# Altium integrated library Linear Technology Power Management LDO Linear Regulators.IntLib: 2339 symbols (part 70 of 131)
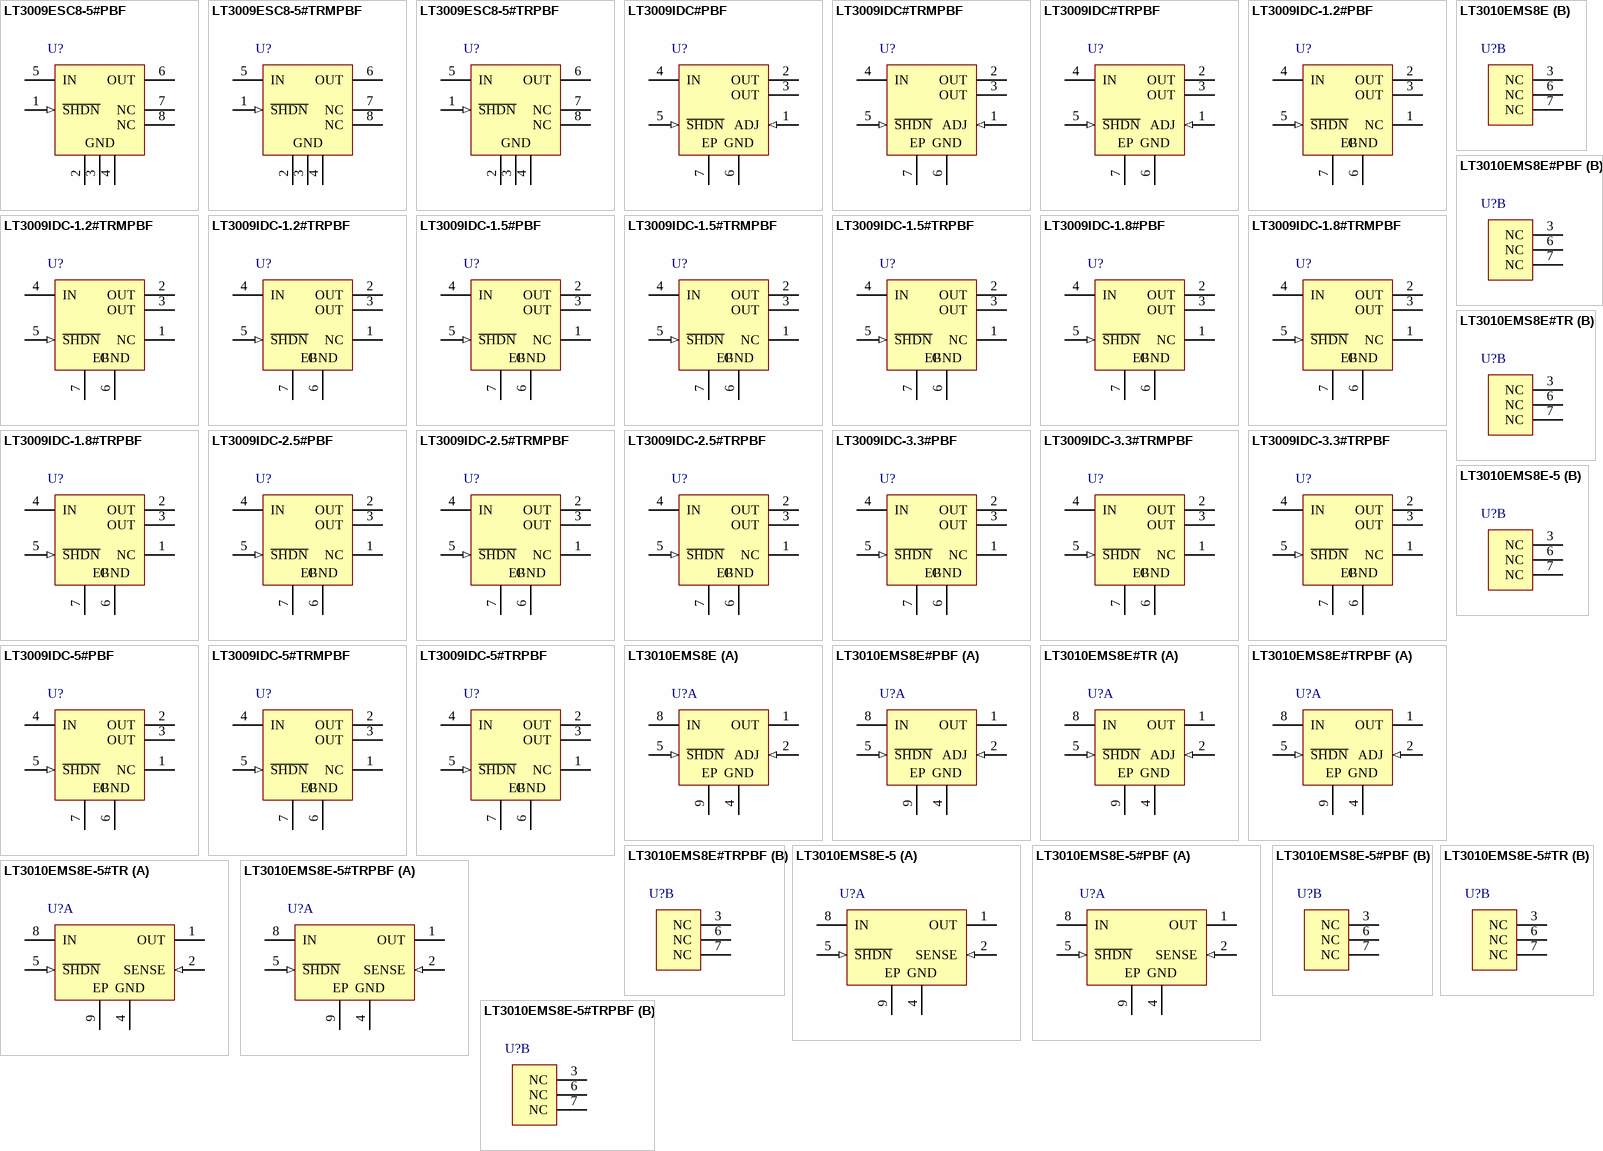
[diagram p138: symbols LT3009ESC8-5#PBF to LT3010EMS8E-5#TRPBF]

## LT3010EMS8E-5#TRPBF
designator U?
50 mA, Low Dropout Micropower Linear Regulator, 3 to 80 V Vin, 5 V Vout, 8-pin SOP (MS8E-8), -40 to 125 degC, Pb-Free, Tape and Reel; Manufacturer: Linear Technology; PartNumber: LT3010EMS8E-5#TRPBF; Discrete Pass Element: no; Dropout Voltage(V): 0.3; Iout(mA): 50; Isupply(mA): 0.03; Noise(uV): 100; Number of Outputs: 1; Output Voltage: 5; PSRR(dB): 68; Vin Max(V): 80; Vin Min(V): 3; DatasheetVersion: Rev. E; PackageVersion: Rev. F; PackageReference: MS8E-8; PackageDescription: 8-Pin Plastic MSOP, Exposed Die Pad, Body 3 x 3 mm, Pitch 0.65 mm; Supplier 1: Digi-Key; Supplier Part Number 1: LT3010EMS8E-5#TRPBFTR-ND; Supplier 2: Digi-Key; Supplier Part Number 2: LT3010EMS8E-5#TRPBFCT-ND; Supplier 3: Digi-Key; Supplier Part Number 3: LT3010EMS8E-5#TRPBFDKR-ND; Supplier 4: Newark; Supplier Part Number 4: 57M7842; Packing: Tape and Reel; RoHS: TRUE; Shutdown Current(uA): 1; Mounting Technology: Surface Mount; ComponentLink1Description: Manufacturer URL; ComponentLink1URL: http://www.linear.com/; ComponentLink2Description: Datasheet; ComponentLink2URL: http://cds.linear.com/docs/en/datasheet/30105fe.pdf; ComponentLink3Description: Package Specification; ComponentLink3URL: http://cds.linear.com/docs/en/datasheet/3080fc.pdf
footprint LT-MS8E-8-1880X1680TP_N (SOP, 8-Leads, Body 3x3mm, Pitch 0.65mm, Thermal Pad 1.88x1.68mm, IPC Medium Density)
footprint LT-MS8E-8-1880X1680TP_L (SOP, 8-Leads, Body 3x3mm, Pitch 0.65mm, Thermal Pad 1.88x1.68mm, IPC High Density)
footprint LT-MS8E-8-1880X1680TP_M (SOP, 8-Leads, Body 3x3mm, Pitch 0.65mm, Thermal Pad 1.88x1.68mm, IPC Low Density)
part A pins: 1 OUT (power) "Output. The output supplies power to the load. A minimum output capacitor of 1uF is required to prevent oscillations. Larger output capacitors will be required for applications with large transient loads to limit peak (See Datasheet)", 2 SENSE (in) "Sense. For the LT3010-5, the SENSE pin is the input to the error amplifier. Optimum regulation will be obtained at the point where the SENSE pin is connected to the OUT pin of the regulator. In critical applications, small (See Datasheet)", 4 GND (power) "Ground. The exposed backside (pin 9) of the package is an electrical connection for GND. As such, to ensure optimum device operation, pin 9 must be connected directly to pin 4 on the PC board.", 5 ~{SHDN} (in) "Shutdown. The S\H\D\N\ pin is used to put the LT3010 into a low power shutdown state. The output will be off when the S\H\D\N\ pin is pulled low. The S\H\D\N\ pin can be driven either by 5V logic or open-collector logic with (See Datasheet)", 8 IN (power) "Input. Power is supplied to the device through the IN pin. A bypass capacitor is required on this pin if the device is more than six inches away from the main input filter capacitor. In general, the output impedance of a (See Datasheet)", 9 EP (power) "Ground. The exposed backside (pin 9) of the package is an electrical connection for GND. As such, to ensure optimum device operation, pin 9 must be connected directly to pin 4 on the PC board."
part B pins: 3 NC "No Connection. May be floated, tied to IN or tied to GND.", 6 NC "No Connection. May be floated, tied to IN or tied to GND.", 7 NC "No Connection. May be floated, tied to IN or tied to GND."

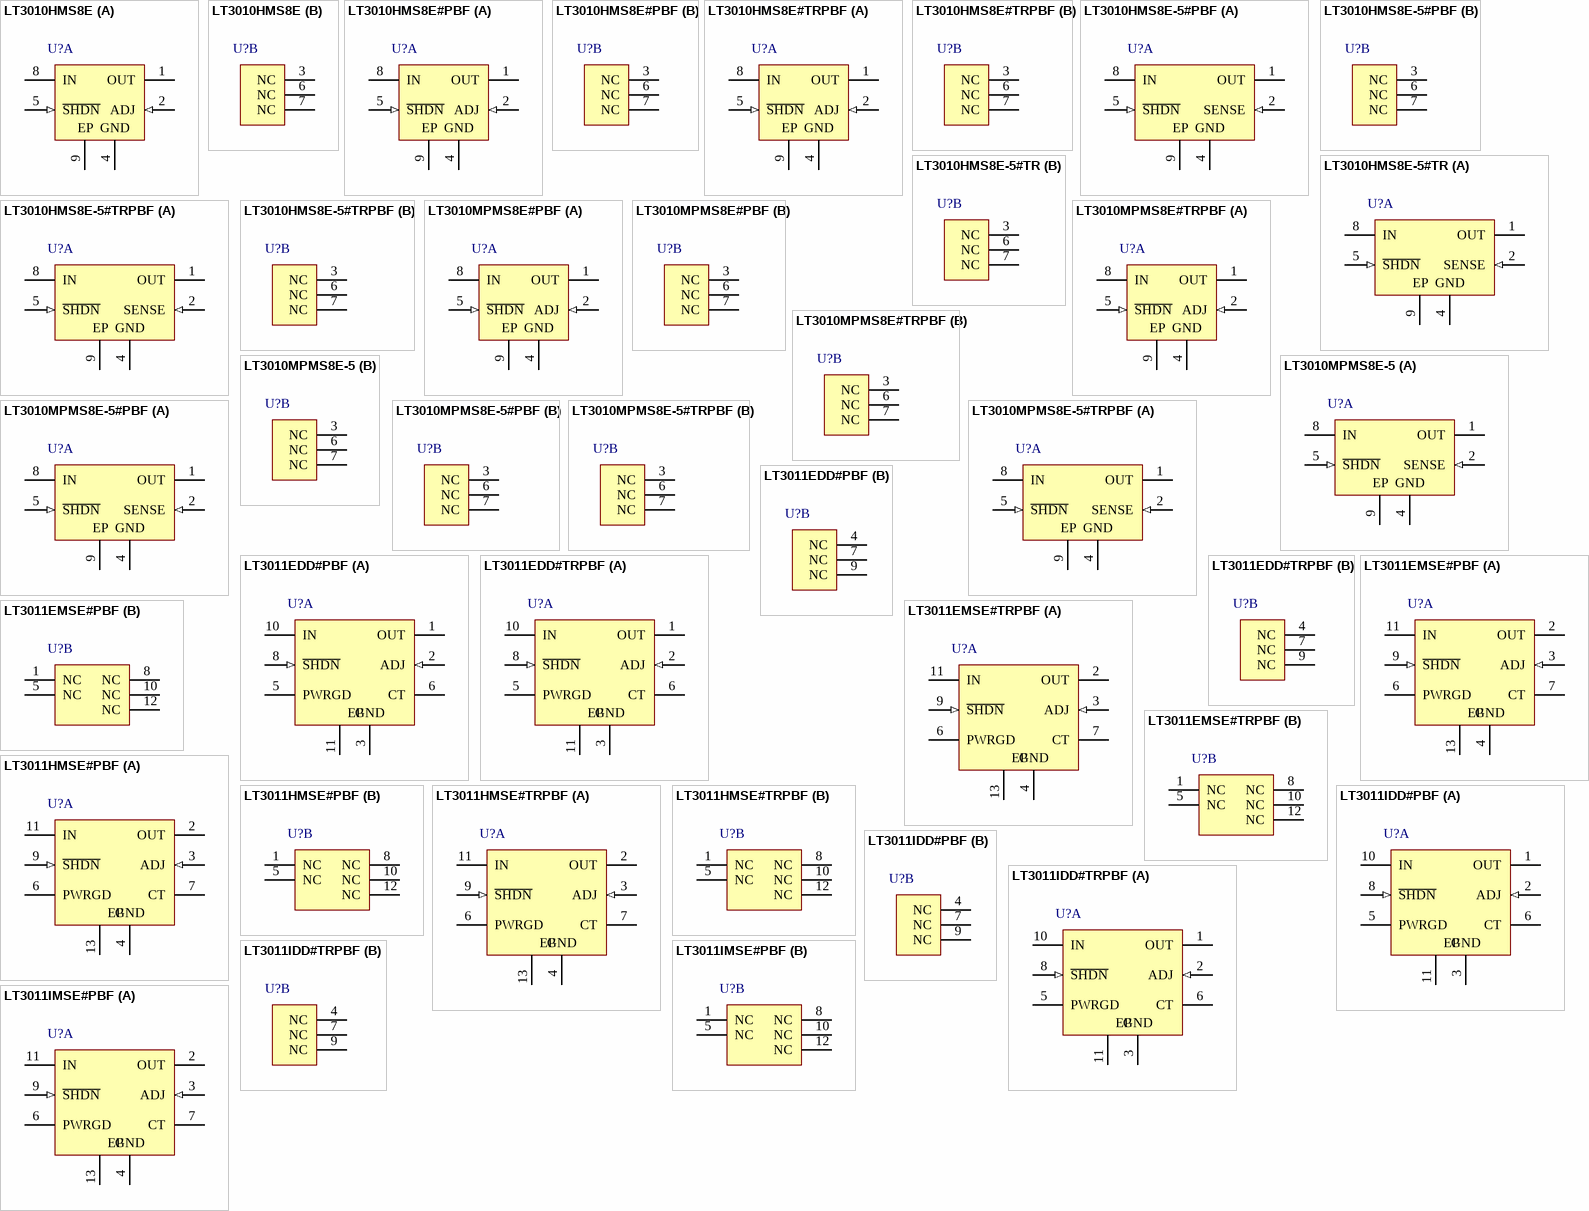
[diagram p43: symbols LT3010HMS8E to LT3011IMSE#PBF]

## LT3010HMS8E
designator U?
50 mA, Low Dropout Micropower Linear Regulator, 3 to 80 V Vin, Adjustable Vout, 8-pin SOP (MS8E-8), -40 to 140 degC; Manufacturer: Linear Technology; PartNumber: LT3010HMS8E; Discrete Pass Element: no; Dropout Voltage(V): 0.3; Iout(mA): 50; Isupply(mA): 0.03; Noise(uV): 100; Number of Outputs: 1; Output Voltage: Adj; PSRR(dB): 75; Vin Max(V): 80; Vin Min(V): 3; Vout Max(V): 60; Vout Min(V): 1.275; DatasheetVersion: Rev. E; PackageVersion: Rev. F; PackageReference: MS8E-8; PackageDescription: 8-Pin Plastic MSOP, Exposed Die Pad, Body 3 x 3 mm, Pitch 0.65 mm; RoHS: FALSE; Shutdown Current(uA): 1; Mounting Technology: Surface Mount; ComponentLink1Description: Manufacturer URL; ComponentLink1URL: http://www.linear.com/; ComponentLink2Description: Datasheet; ComponentLink2URL: http://cds.linear.com/docs/en/datasheet/30105fe.pdf; ComponentLink3Description: Package Specification; ComponentLink3URL: http://cds.linear.com/docs/en/datasheet/3080fc.pdf
footprint LT-MS8E-8-1880X1680TP_N (SOP, 8-Leads, Body 3x3mm, Pitch 0.65mm, Thermal Pad 1.88x1.68mm, IPC Medium Density)
footprint LT-MS8E-8-1880X1680TP_L (SOP, 8-Leads, Body 3x3mm, Pitch 0.65mm, Thermal Pad 1.88x1.68mm, IPC High Density)
footprint LT-MS8E-8-1880X1680TP_M (SOP, 8-Leads, Body 3x3mm, Pitch 0.65mm, Thermal Pad 1.88x1.68mm, IPC Low Density)
part A pins: 1 OUT (power) "Output. The output supplies power to the load.", 2 ADJ (in) "Adjust. This is the input to the error amplifier.", 4 GND (power) "Ground.", 5 ~{SHDN} (in) "Shutdown. The output will be off when the S\H\D\N\ pin is pulled low. The S\H\D\N\ pin can be driven either by 5V logic or open-collector logic with a pull-up resistor.", 8 IN (power) "Input. Power is supplied to the device through the IN pin. A bypass capacitor is required on this pin if the device is more than six inches away from the main input filter capacitor. In general, the output impedance of a (See Datasheet)", 9 EP (power) "Ground."
part B pins: 3 NC, 6 NC, 7 NC

## LT3010HMS8E#PBF
designator U?
50 mA, Low Dropout Micropower Linear Regulator, 3 to 80 V Vin, Adjustable Vout, 8-pin SOP (MS8E-8), -40 to 140 degC, Pb-Free; Manufacturer: Linear Technology; PartNumber: LT3010HMS8E#PBF; Discrete Pass Element: no; Dropout Voltage(V): 0.3; Iout(mA): 50; Isupply(mA): 0.03; Noise(uV): 100; Number of Outputs: 1; Output Voltage: Adj; PSRR(dB): 75; Vin Max(V): 80; Vin Min(V): 3; Vout Max(V): 60; Vout Min(V): 1.275; DatasheetVersion: Rev. E; PackageVersion: Rev. F; PackageReference: MS8E-8; PackageDescription: 8-Pin Plastic MSOP, Exposed Die Pad, Body 3 x 3 mm, Pitch 0.65 mm; Supplier 1: Digi-Key; Supplier Part Number 1: LT3010HMS8E#PBF-ND; Supplier 2: Farnell; Supplier Part Number 2: 2295239; Supplier 3: Newark; Supplier Part Number 3: 57M7848; RoHS: TRUE; Shutdown Current(uA): 1; Mounting Technology: Surface Mount; ComponentLink1Description: Manufacturer URL; ComponentLink1URL: http://www.linear.com/; ComponentLink2Description: Datasheet; ComponentLink2URL: http://cds.linear.com/docs/en/datasheet/30105fe.pdf; ComponentLink3Description: Package Specification; ComponentLink3URL: http://cds.linear.com/docs/en/datasheet/3080fc.pdf
footprint LT-MS8E-8-1880X1680TP_N (SOP, 8-Leads, Body 3x3mm, Pitch 0.65mm, Thermal Pad 1.88x1.68mm, IPC Medium Density)
footprint LT-MS8E-8-1880X1680TP_L (SOP, 8-Leads, Body 3x3mm, Pitch 0.65mm, Thermal Pad 1.88x1.68mm, IPC High Density)
footprint LT-MS8E-8-1880X1680TP_M (SOP, 8-Leads, Body 3x3mm, Pitch 0.65mm, Thermal Pad 1.88x1.68mm, IPC Low Density)
part A pins: 1 OUT (power) "Output. The output supplies power to the load.", 2 ADJ (in) "Adjust. This is the input to the error amplifier.", 4 GND (power) "Ground.", 5 ~{SHDN} (in) "Shutdown. The output will be off when the S\H\D\N\ pin is pulled low. The S\H\D\N\ pin can be driven either by 5V logic or open-collector logic with a pull-up resistor.", 8 IN (power) "Input. Power is supplied to the device through the IN pin. A bypass capacitor is required on this pin if the device is more than six inches away from the main input filter capacitor. In general, the output impedance of a (See Datasheet)", 9 EP (power) "Ground."
part B pins: 3 NC, 6 NC, 7 NC

## LT3010HMS8E#TRPBF
designator U?
50 mA, Low Dropout Micropower Linear Regulator, 3 to 80 V Vin, Adjustable Vout, 8-pin SOP (MS8E-8), -40 to 140 degC, Pb-Free, Tape and Reel; Manufacturer: Linear Technology; PartNumber: LT3010HMS8E#TRPBF; Discrete Pass Element: no; Dropout Voltage(V): 0.3; Iout(mA): 50; Isupply(mA): 0.03; Noise(uV): 100; Number of Outputs: 1; Output Voltage: Adj; PSRR(dB): 75; Vin Max(V): 80; Vin Min(V): 3; Vout Max(V): 60; Vout Min(V): 1.275; DatasheetVersion: Rev. E; PackageVersion: Rev. F; PackageReference: MS8E-8; PackageDescription: 8-Pin Plastic MSOP, Exposed Die Pad, Body 3 x 3 mm, Pitch 0.65 mm; Supplier 1: Digi-Key; Supplier Part Number 1: LT3010HMS8E#TRPBF-ND; Packing: Tape and Reel; RoHS: TRUE; Shutdown Current(uA): 1; Mounting Technology: Surface Mount; ComponentLink1Description: Manufacturer URL; ComponentLink1URL: http://www.linear.com/; ComponentLink2Description: Datasheet; ComponentLink2URL: http://cds.linear.com/docs/en/datasheet/30105fe.pdf; ComponentLink3Description: Package Specification; ComponentLink3URL: http://cds.linear.com/docs/en/datasheet/3080fc.pdf
footprint LT-MS8E-8-1880X1680TP_N (SOP, 8-Leads, Body 3x3mm, Pitch 0.65mm, Thermal Pad 1.88x1.68mm, IPC Medium Density)
footprint LT-MS8E-8-1880X1680TP_L (SOP, 8-Leads, Body 3x3mm, Pitch 0.65mm, Thermal Pad 1.88x1.68mm, IPC High Density)
footprint LT-MS8E-8-1880X1680TP_M (SOP, 8-Leads, Body 3x3mm, Pitch 0.65mm, Thermal Pad 1.88x1.68mm, IPC Low Density)
part A pins: 1 OUT (power) "Output. The output supplies power to the load.", 2 ADJ (in) "Adjust. This is the input to the error amplifier.", 4 GND (power) "Ground.", 5 ~{SHDN} (in) "Shutdown. The output will be off when the S\H\D\N\ pin is pulled low. The S\H\D\N\ pin can be driven either by 5V logic or open-collector logic with a pull-up resistor.", 8 IN (power) "Input. Power is supplied to the device through the IN pin. A bypass capacitor is required on this pin if the device is more than six inches away from the main input filter capacitor. In general, the output impedance of a (See Datasheet)", 9 EP (power) "Ground."
part B pins: 3 NC, 6 NC, 7 NC

## LT3010HMS8E-5#PBF
designator U?
50 mA, Low Dropout Micropower Linear Regulator, 3 to 80 V Vin, 5 V Vout, 8-pin SOP (MS8E-8), -40 to 140 degC, Pb-Free; Manufacturer: Linear Technology; PartNumber: LT3010HMS8E-5#PBF; Discrete Pass Element: no; Dropout Voltage(V): 0.3; Iout(mA): 50; Isupply(mA): 0.03; Noise(uV): 100; Number of Outputs: 1; Output Voltage: 5; PSRR(dB): 68; Vin Max(V): 80; Vin Min(V): 3; DatasheetVersion: Rev. E; PackageVersion: Rev. F; PackageReference: MS8E-8; PackageDescription: 8-Pin Plastic MSOP, Exposed Die Pad, Body 3 x 3 mm, Pitch 0.65 mm; Supplier 1: Digi-Key; Supplier Part Number 1: LT3010HMS8E-5#PBF-ND; Supplier 2: Farnell; Supplier Part Number 2: 2102635; Supplier 3: Farnell; Supplier Part Number 3: 1627592; Supplier 4: Newark; Supplier Part Number 4: 57M7846; RoHS: TRUE; Shutdown Current(uA): 1; Mounting Technology: Surface Mount; ComponentLink1Description: Manufacturer URL; ComponentLink1URL: http://www.linear.com/; ComponentLink2Description: Datasheet; ComponentLink2URL: http://cds.linear.com/docs/en/datasheet/30105fe.pdf; ComponentLink3Description: Package Specification; ComponentLink3URL: http://cds.linear.com/docs/en/datasheet/3080fc.pdf
footprint LT-MS8E-8-1880X1680TP_N (SOP, 8-Leads, Body 3x3mm, Pitch 0.65mm, Thermal Pad 1.88x1.68mm, IPC Medium Density)
footprint LT-MS8E-8-1880X1680TP_L (SOP, 8-Leads, Body 3x3mm, Pitch 0.65mm, Thermal Pad 1.88x1.68mm, IPC High Density)
footprint LT-MS8E-8-1880X1680TP_M (SOP, 8-Leads, Body 3x3mm, Pitch 0.65mm, Thermal Pad 1.88x1.68mm, IPC Low Density)
part A pins: 1 OUT (power) "Output. The output supplies power to the load. A minimum output capacitor of 1uF is required to prevent oscillations. Larger output capacitors will be required for applications with large transient loads to limit peak (See Datasheet)", 2 SENSE (in) "Sense. For the LT3010-5, the SENSE pin is the input to the error amplifier. Optimum regulation will be obtained at the point where the SENSE pin is connected to the OUT pin of the regulator. In critical applications, small (See Datasheet)", 4 GND (power) "Ground. The exposed backside (pin 9) of the package is an electrical connection for GND. As such, to ensure optimum device operation, pin 9 must be connected directly to pin 4 on the PC board.", 5 ~{SHDN} (in) "Shutdown. The S\H\D\N\ pin is used to put the LT3010 into a low power shutdown state. The output will be off when the S\H\D\N\ pin is pulled low. The S\H\D\N\ pin can be driven either by 5V logic or open-collector logic with (See Datasheet)", 8 IN (power) "Input. Power is supplied to the device through the IN pin. A bypass capacitor is required on this pin if the device is more than six inches away from the main input filter capacitor. In general, the output impedance of a (See Datasheet)", 9 EP (power) "Ground. The exposed backside (pin 9) of the package is an electrical connection for GND. As such, to ensure optimum device operation, pin 9 must be connected directly to pin 4 on the PC board."
part B pins: 3 NC "No Connection. May be floated, tied to IN or tied to GND.", 6 NC "No Connection. May be floated, tied to IN or tied to GND.", 7 NC "No Connection. May be floated, tied to IN or tied to GND."

## LT3010HMS8E-5#TR
designator U?
50 mA, Low Dropout Micropower Linear Regulator, 3 to 80 V Vin, 5 V Vout, 8-pin SOP (MS8E-8), -40 to 140 degC, Tape and Reel; Manufacturer: Linear Technology; PartNumber: LT3010HMS8E-5#TR; Discrete Pass Element: no; Dropout Voltage(V): 0.3; Iout(mA): 50; Isupply(mA): 0.03; Noise(uV): 100; Number of Outputs: 1; Output Voltage: 5; PSRR(dB): 68; Vin Max(V): 80; Vin Min(V): 3; DatasheetVersion: Rev. E; PackageVersion: Rev. F; PackageReference: MS8E-8; PackageDescription: 8-Pin Plastic MSOP, Exposed Die Pad, Body 3 x 3 mm, Pitch 0.65 mm; Packing: Tape and Reel; RoHS: FALSE; Shutdown Current(uA): 1; Mounting Technology: Surface Mount; ComponentLink1Description: Manufacturer URL; ComponentLink1URL: http://www.linear.com/; ComponentLink2Description: Datasheet; ComponentLink2URL: http://cds.linear.com/docs/en/datasheet/30105fe.pdf; ComponentLink3Description: Package Specification; ComponentLink3URL: http://cds.linear.com/docs/en/datasheet/3080fc.pdf
footprint LT-MS8E-8-1880X1680TP_N (SOP, 8-Leads, Body 3x3mm, Pitch 0.65mm, Thermal Pad 1.88x1.68mm, IPC Medium Density)
footprint LT-MS8E-8-1880X1680TP_L (SOP, 8-Leads, Body 3x3mm, Pitch 0.65mm, Thermal Pad 1.88x1.68mm, IPC High Density)
footprint LT-MS8E-8-1880X1680TP_M (SOP, 8-Leads, Body 3x3mm, Pitch 0.65mm, Thermal Pad 1.88x1.68mm, IPC Low Density)
part A pins: 1 OUT (power) "Output. The output supplies power to the load. A minimum output capacitor of 1uF is required to prevent oscillations. Larger output capacitors will be required for applications with large transient loads to limit peak (See Datasheet)", 2 SENSE (in) "Sense. For the LT3010-5, the SENSE pin is the input to the error amplifier. Optimum regulation will be obtained at the point where the SENSE pin is connected to the OUT pin of the regulator. In critical applications, small (See Datasheet)", 4 GND (power) "Ground. The exposed backside (pin 9) of the package is an electrical connection for GND. As such, to ensure optimum device operation, pin 9 must be connected directly to pin 4 on the PC board.", 5 ~{SHDN} (in) "Shutdown. The S\H\D\N\ pin is used to put the LT3010 into a low power shutdown state. The output will be off when the S\H\D\N\ pin is pulled low. The S\H\D\N\ pin can be driven either by 5V logic or open-collector logic with (See Datasheet)", 8 IN (power) "Input. Power is supplied to the device through the IN pin. A bypass capacitor is required on this pin if the device is more than six inches away from the main input filter capacitor. In general, the output impedance of a (See Datasheet)", 9 EP (power) "Ground. The exposed backside (pin 9) of the package is an electrical connection for GND. As such, to ensure optimum device operation, pin 9 must be connected directly to pin 4 on the PC board."
part B pins: 3 NC "No Connection. May be floated, tied to IN or tied to GND.", 6 NC "No Connection. May be floated, tied to IN or tied to GND.", 7 NC "No Connection. May be floated, tied to IN or tied to GND."

## LT3010HMS8E-5#TRPBF
designator U?
50 mA, Low Dropout Micropower Linear Regulator, 3 to 80 V Vin, 5 V Vout, 8-pin SOP (MS8E-8), -40 to 140 degC, Pb-Free, Tape and Reel; Manufacturer: Linear Technology; PartNumber: LT3010HMS8E-5#TRPBF; Discrete Pass Element: no; Dropout Voltage(V): 0.3; Iout(mA): 50; Isupply(mA): 0.03; Noise(uV): 100; Number of Outputs: 1; Output Voltage: 5; PSRR(dB): 68; Vin Max(V): 80; Vin Min(V): 3; DatasheetVersion: Rev. E; PackageVersion: Rev. F; PackageReference: MS8E-8; PackageDescription: 8-Pin Plastic MSOP, Exposed Die Pad, Body 3 x 3 mm, Pitch 0.65 mm; Supplier 1: Digi-Key; Supplier Part Number 1: LT3010HMS8E-5#TRPBF-ND; Supplier 2: Newark; Supplier Part Number 2: 57M7847; Packing: Tape and Reel; RoHS: TRUE; Shutdown Current(uA): 1; Mounting Technology: Surface Mount; ComponentLink1Description: Manufacturer URL; ComponentLink1URL: http://www.linear.com/; ComponentLink2Description: Datasheet; ComponentLink2URL: http://cds.linear.com/docs/en/datasheet/30105fe.pdf; ComponentLink3Description: Package Specification; ComponentLink3URL: http://cds.linear.com/docs/en/datasheet/3080fc.pdf
footprint LT-MS8E-8-1880X1680TP_N (SOP, 8-Leads, Body 3x3mm, Pitch 0.65mm, Thermal Pad 1.88x1.68mm, IPC Medium Density)
footprint LT-MS8E-8-1880X1680TP_L (SOP, 8-Leads, Body 3x3mm, Pitch 0.65mm, Thermal Pad 1.88x1.68mm, IPC High Density)
footprint LT-MS8E-8-1880X1680TP_M (SOP, 8-Leads, Body 3x3mm, Pitch 0.65mm, Thermal Pad 1.88x1.68mm, IPC Low Density)
part A pins: 1 OUT (power) "Output. The output supplies power to the load. A minimum output capacitor of 1uF is required to prevent oscillations. Larger output capacitors will be required for applications with large transient loads to limit peak (See Datasheet)", 2 SENSE (in) "Sense. For the LT3010-5, the SENSE pin is the input to the error amplifier. Optimum regulation will be obtained at the point where the SENSE pin is connected to the OUT pin of the regulator. In critical applications, small (See Datasheet)", 4 GND (power) "Ground. The exposed backside (pin 9) of the package is an electrical connection for GND. As such, to ensure optimum device operation, pin 9 must be connected directly to pin 4 on the PC board.", 5 ~{SHDN} (in) "Shutdown. The S\H\D\N\ pin is used to put the LT3010 into a low power shutdown state. The output will be off when the S\H\D\N\ pin is pulled low. The S\H\D\N\ pin can be driven either by 5V logic or open-collector logic with (See Datasheet)", 8 IN (power) "Input. Power is supplied to the device through the IN pin. A bypass capacitor is required on this pin if the device is more than six inches away from the main input filter capacitor. In general, the output impedance of a (See Datasheet)", 9 EP (power) "Ground. The exposed backside (pin 9) of the package is an electrical connection for GND. As such, to ensure optimum device operation, pin 9 must be connected directly to pin 4 on the PC board."
part B pins: 3 NC "No Connection. May be floated, tied to IN or tied to GND.", 6 NC "No Connection. May be floated, tied to IN or tied to GND.", 7 NC "No Connection. May be floated, tied to IN or tied to GND."

## LT3010MPMS8E#PBF
designator U?
50 mA, Low Dropout Micropower Linear Regulator, 3 to 80 V Vin, Adjustable Vout, 8-pin SOP (MS8E-8), -55 to 125 degC, Pb-Free; Manufacturer: Linear Technology; PartNumber: LT3010MPMS8E#PBF; Discrete Pass Element: no; Dropout Voltage(V): 0.3; Iout(mA): 50; Isupply(mA): 0.03; Noise(uV): 100; Number of Outputs: 1; Output Voltage: Adj; PSRR(dB): 75; Vin Max(V): 80; Vin Min(V): 3; Vout Max(V): 60; Vout Min(V): 1.275; DatasheetVersion: Rev. E; PackageVersion: Rev. F; PackageReference: MS8E-8; PackageDescription: 8-Pin Plastic MSOP, Exposed Die Pad, Body 3 x 3 mm, Pitch 0.65 mm; Supplier 1: Digi-Key; Supplier Part Number 1: LT3010MPMS8E#PBF-ND; Supplier 2: Farnell; Supplier Part Number 2: 2295240; Supplier 3: Newark; Supplier Part Number 3: 78R8427; RoHS: TRUE; Shutdown Current(uA): 1; Mounting Technology: Surface Mount; ComponentLink1Description: Manufacturer URL; ComponentLink1URL: http://www.linear.com/; ComponentLink2Description: Datasheet; ComponentLink2URL: http://cds.linear.com/docs/en/datasheet/30105fe.pdf; ComponentLink3Description: Package Specification; ComponentLink3URL: http://cds.linear.com/docs/en/datasheet/3080fc.pdf
footprint LT-MS8E-8-1880X1680TP_N (SOP, 8-Leads, Body 3x3mm, Pitch 0.65mm, Thermal Pad 1.88x1.68mm, IPC Medium Density)
footprint LT-MS8E-8-1880X1680TP_L (SOP, 8-Leads, Body 3x3mm, Pitch 0.65mm, Thermal Pad 1.88x1.68mm, IPC High Density)
footprint LT-MS8E-8-1880X1680TP_M (SOP, 8-Leads, Body 3x3mm, Pitch 0.65mm, Thermal Pad 1.88x1.68mm, IPC Low Density)
part A pins: 1 OUT (power) "Output. The output supplies power to the load.", 2 ADJ (in) "Adjust. This is the input to the error amplifier.", 4 GND (power) "Ground.", 5 ~{SHDN} (in) "Shutdown. The output will be off when the S\H\D\N\ pin is pulled low. The S\H\D\N\ pin can be driven either by 5V logic or open-collector logic with a pull-up resistor.", 8 IN (power) "Input. Power is supplied to the device through the IN pin. A bypass capacitor is required on this pin if the device is more than six inches away from the main input filter capacitor. In general, the output impedance of a (See Datasheet)", 9 EP (power) "Ground."
part B pins: 3 NC, 6 NC, 7 NC

## LT3010MPMS8E#TRPBF
designator U?
50 mA, Low Dropout Micropower Linear Regulator, 3 to 80 V Vin, Adjustable Vout, 8-pin SOP (MS8E-8), -55 to 125 degC, Pb-Free, Tape and Reel; Manufacturer: Linear Technology; PartNumber: LT3010MPMS8E#TRPBF; Discrete Pass Element: no; Dropout Voltage(V): 0.3; Iout(mA): 50; Isupply(mA): 0.03; Noise(uV): 100; Number of Outputs: 1; Output Voltage: Adj; PSRR(dB): 75; Vin Max(V): 80; Vin Min(V): 3; Vout Max(V): 60; Vout Min(V): 1.275; DatasheetVersion: Rev. E; PackageVersion: Rev. F; PackageReference: MS8E-8; PackageDescription: 8-Pin Plastic MSOP, Exposed Die Pad, Body 3 x 3 mm, Pitch 0.65 mm; Supplier 1: Digi-Key; Supplier Part Number 1: LT3010MPMS8E#TRPBF-ND; Supplier 2: Newark; Supplier Part Number 2: 78R8428; Packing: Tape and Reel; RoHS: TRUE; Shutdown Current(uA): 1; Mounting Technology: Surface Mount; ComponentLink1Description: Manufacturer URL; ComponentLink1URL: http://www.linear.com/; ComponentLink2Description: Datasheet; ComponentLink2URL: http://cds.linear.com/docs/en/datasheet/30105fe.pdf; ComponentLink3Description: Package Specification; ComponentLink3URL: http://cds.linear.com/docs/en/datasheet/3080fc.pdf
footprint LT-MS8E-8-1880X1680TP_N (SOP, 8-Leads, Body 3x3mm, Pitch 0.65mm, Thermal Pad 1.88x1.68mm, IPC Medium Density)
footprint LT-MS8E-8-1880X1680TP_L (SOP, 8-Leads, Body 3x3mm, Pitch 0.65mm, Thermal Pad 1.88x1.68mm, IPC High Density)
footprint LT-MS8E-8-1880X1680TP_M (SOP, 8-Leads, Body 3x3mm, Pitch 0.65mm, Thermal Pad 1.88x1.68mm, IPC Low Density)
part A pins: 1 OUT (power) "Output. The output supplies power to the load.", 2 ADJ (in) "Adjust. This is the input to the error amplifier.", 4 GND (power) "Ground.", 5 ~{SHDN} (in) "Shutdown. The output will be off when the S\H\D\N\ pin is pulled low. The S\H\D\N\ pin can be driven either by 5V logic or open-collector logic with a pull-up resistor.", 8 IN (power) "Input. Power is supplied to the device through the IN pin. A bypass capacitor is required on this pin if the device is more than six inches away from the main input filter capacitor. In general, the output impedance of a (See Datasheet)", 9 EP (power) "Ground."
part B pins: 3 NC, 6 NC, 7 NC

## LT3010MPMS8E-5
designator U?
50 mA, Low Dropout Micropower Linear Regulator, 3 to 80 V Vin, 5 V Vout, 8-pin SOP (MS8E-8), -55 to 125 degC; Manufacturer: Linear Technology; PartNumber: LT3010MPMS8E-5; Discrete Pass Element: no; Dropout Voltage(V): 0.3; Iout(mA): 50; Isupply(mA): 0.03; Noise(uV): 100; Number of Outputs: 1; Output Voltage: 5; PSRR(dB): 68; Vin Max(V): 80; Vin Min(V): 3; DatasheetVersion: Rev. E; PackageVersion: Rev. F; PackageReference: MS8E-8; PackageDescription: 8-Pin Plastic MSOP, Exposed Die Pad, Body 3 x 3 mm, Pitch 0.65 mm; RoHS: FALSE; Shutdown Current(uA): 1; Mounting Technology: Surface Mount; ComponentLink1Description: Manufacturer URL; ComponentLink1URL: http://www.linear.com/; ComponentLink2Description: Datasheet; ComponentLink2URL: http://cds.linear.com/docs/en/datasheet/30105fe.pdf; ComponentLink3Description: Package Specification; ComponentLink3URL: http://cds.linear.com/docs/en/datasheet/3080fc.pdf
footprint LT-MS8E-8-1880X1680TP_N (SOP, 8-Leads, Body 3x3mm, Pitch 0.65mm, Thermal Pad 1.88x1.68mm, IPC Medium Density)
footprint LT-MS8E-8-1880X1680TP_L (SOP, 8-Leads, Body 3x3mm, Pitch 0.65mm, Thermal Pad 1.88x1.68mm, IPC High Density)
footprint LT-MS8E-8-1880X1680TP_M (SOP, 8-Leads, Body 3x3mm, Pitch 0.65mm, Thermal Pad 1.88x1.68mm, IPC Low Density)
part A pins: 1 OUT (power) "Output. The output supplies power to the load. A minimum output capacitor of 1uF is required to prevent oscillations. Larger output capacitors will be required for applications with large transient loads to limit peak (See Datasheet)", 2 SENSE (in) "Sense. For the LT3010-5, the SENSE pin is the input to the error amplifier. Optimum regulation will be obtained at the point where the SENSE pin is connected to the OUT pin of the regulator. In critical applications, small (See Datasheet)", 4 GND (power) "Ground. The exposed backside (pin 9) of the package is an electrical connection for GND. As such, to ensure optimum device operation, pin 9 must be connected directly to pin 4 on the PC board.", 5 ~{SHDN} (in) "Shutdown. The S\H\D\N\ pin is used to put the LT3010 into a low power shutdown state. The output will be off when the S\H\D\N\ pin is pulled low. The S\H\D\N\ pin can be driven either by 5V logic or open-collector logic with (See Datasheet)", 8 IN (power) "Input. Power is supplied to the device through the IN pin. A bypass capacitor is required on this pin if the device is more than six inches away from the main input filter capacitor. In general, the output impedance of a (See Datasheet)", 9 EP (power) "Ground. The exposed backside (pin 9) of the package is an electrical connection for GND. As such, to ensure optimum device operation, pin 9 must be connected directly to pin 4 on the PC board."
part B pins: 3 NC "No Connection. May be floated, tied to IN or tied to GND.", 6 NC "No Connection. May be floated, tied to IN or tied to GND.", 7 NC "No Connection. May be floated, tied to IN or tied to GND."

## LT3010MPMS8E-5#PBF
designator U?
50 mA, Low Dropout Micropower Linear Regulator, 3 to 80 V Vin, 5 V Vout, 8-pin SOP (MS8E-8), -55 to 125 degC, Pb-Free; Manufacturer: Linear Technology; PartNumber: LT3010MPMS8E-5#PBF; Discrete Pass Element: no; Dropout Voltage(V): 0.3; Iout(mA): 50; Isupply(mA): 0.03; Noise(uV): 100; Number of Outputs: 1; Output Voltage: 5; PSRR(dB): 68; Vin Max(V): 80; Vin Min(V): 3; DatasheetVersion: Rev. E; PackageVersion: Rev. F; PackageReference: MS8E-8; PackageDescription: 8-Pin Plastic MSOP, Exposed Die Pad, Body 3 x 3 mm, Pitch 0.65 mm; Supplier 1: Digi-Key; Supplier Part Number 1: LT3010MPMS8E-5#PBF-ND; Supplier 2: Farnell; Supplier Part Number 2: 2295241; Supplier 3: Newark; Supplier Part Number 3: 78R8425; RoHS: TRUE; Shutdown Current(uA): 1; Mounting Technology: Surface Mount; ComponentLink1Description: Manufacturer URL; ComponentLink1URL: http://www.linear.com/; ComponentLink2Description: Datasheet; ComponentLink2URL: http://cds.linear.com/docs/en/datasheet/30105fe.pdf; ComponentLink3Description: Package Specification; ComponentLink3URL: http://cds.linear.com/docs/en/datasheet/3080fc.pdf
footprint LT-MS8E-8-1880X1680TP_N (SOP, 8-Leads, Body 3x3mm, Pitch 0.65mm, Thermal Pad 1.88x1.68mm, IPC Medium Density)
footprint LT-MS8E-8-1880X1680TP_L (SOP, 8-Leads, Body 3x3mm, Pitch 0.65mm, Thermal Pad 1.88x1.68mm, IPC High Density)
footprint LT-MS8E-8-1880X1680TP_M (SOP, 8-Leads, Body 3x3mm, Pitch 0.65mm, Thermal Pad 1.88x1.68mm, IPC Low Density)
part A pins: 1 OUT (power) "Output. The output supplies power to the load. A minimum output capacitor of 1uF is required to prevent oscillations. Larger output capacitors will be required for applications with large transient loads to limit peak (See Datasheet)", 2 SENSE (in) "Sense. For the LT3010-5, the SENSE pin is the input to the error amplifier. Optimum regulation will be obtained at the point where the SENSE pin is connected to the OUT pin of the regulator. In critical applications, small (See Datasheet)", 4 GND (power) "Ground. The exposed backside (pin 9) of the package is an electrical connection for GND. As such, to ensure optimum device operation, pin 9 must be connected directly to pin 4 on the PC board.", 5 ~{SHDN} (in) "Shutdown. The S\H\D\N\ pin is used to put the LT3010 into a low power shutdown state. The output will be off when the S\H\D\N\ pin is pulled low. The S\H\D\N\ pin can be driven either by 5V logic or open-collector logic with (See Datasheet)", 8 IN (power) "Input. Power is supplied to the device through the IN pin. A bypass capacitor is required on this pin if the device is more than six inches away from the main input filter capacitor. In general, the output impedance of a (See Datasheet)", 9 EP (power) "Ground. The exposed backside (pin 9) of the package is an electrical connection for GND. As such, to ensure optimum device operation, pin 9 must be connected directly to pin 4 on the PC board."
part B pins: 3 NC "No Connection. May be floated, tied to IN or tied to GND.", 6 NC "No Connection. May be floated, tied to IN or tied to GND.", 7 NC "No Connection. May be floated, tied to IN or tied to GND."

## LT3010MPMS8E-5#TRPBF
designator U?
50 mA, Low Dropout Micropower Linear Regulator, 3 to 80 V Vin, 5 V Vout, 8-pin SOP (MS8E-8), -55 to 125 degC, Pb-Free, Tape and Reel; Manufacturer: Linear Technology; PartNumber: LT3010MPMS8E-5#TRPBF; Discrete Pass Element: no; Dropout Voltage(V): 0.3; Iout(mA): 50; Isupply(mA): 0.03; Noise(uV): 100; Number of Outputs: 1; Output Voltage: 5; PSRR(dB): 68; Vin Max(V): 80; Vin Min(V): 3; DatasheetVersion: Rev. E; PackageVersion: Rev. F; PackageReference: MS8E-8; PackageDescription: 8-Pin Plastic MSOP, Exposed Die Pad, Body 3 x 3 mm, Pitch 0.65 mm; Supplier 1: Digi-Key; Supplier Part Number 1: LT3010MPMS8E-5#TRPBF-ND; Supplier 2: Newark; Supplier Part Number 2: 78R8426; Packing: Tape and Reel; RoHS: TRUE; Shutdown Current(uA): 1; Mounting Technology: Surface Mount; ComponentLink1Description: Manufacturer URL; ComponentLink1URL: http://www.linear.com/; ComponentLink2Description: Datasheet; ComponentLink2URL: http://cds.linear.com/docs/en/datasheet/30105fe.pdf; ComponentLink3Description: Package Specification; ComponentLink3URL: http://cds.linear.com/docs/en/datasheet/3080fc.pdf
footprint LT-MS8E-8-1880X1680TP_N (SOP, 8-Leads, Body 3x3mm, Pitch 0.65mm, Thermal Pad 1.88x1.68mm, IPC Medium Density)
footprint LT-MS8E-8-1880X1680TP_L (SOP, 8-Leads, Body 3x3mm, Pitch 0.65mm, Thermal Pad 1.88x1.68mm, IPC High Density)
footprint LT-MS8E-8-1880X1680TP_M (SOP, 8-Leads, Body 3x3mm, Pitch 0.65mm, Thermal Pad 1.88x1.68mm, IPC Low Density)
part A pins: 1 OUT (power) "Output. The output supplies power to the load. A minimum output capacitor of 1uF is required to prevent oscillations. Larger output capacitors will be required for applications with large transient loads to limit peak (See Datasheet)", 2 SENSE (in) "Sense. For the LT3010-5, the SENSE pin is the input to the error amplifier. Optimum regulation will be obtained at the point where the SENSE pin is connected to the OUT pin of the regulator. In critical applications, small (See Datasheet)", 4 GND (power) "Ground. The exposed backside (pin 9) of the package is an electrical connection for GND. As such, to ensure optimum device operation, pin 9 must be connected directly to pin 4 on the PC board.", 5 ~{SHDN} (in) "Shutdown. The S\H\D\N\ pin is used to put the LT3010 into a low power shutdown state. The output will be off when the S\H\D\N\ pin is pulled low. The S\H\D\N\ pin can be driven either by 5V logic or open-collector logic with (See Datasheet)", 8 IN (power) "Input. Power is supplied to the device through the IN pin. A bypass capacitor is required on this pin if the device is more than six inches away from the main input filter capacitor. In general, the output impedance of a (See Datasheet)", 9 EP (power) "Ground. The exposed backside (pin 9) of the package is an electrical connection for GND. As such, to ensure optimum device operation, pin 9 must be connected directly to pin 4 on the PC board."
part B pins: 3 NC "No Connection. May be floated, tied to IN or tied to GND.", 6 NC "No Connection. May be floated, tied to IN or tied to GND.", 7 NC "No Connection. May be floated, tied to IN or tied to GND."

## LT3011EDD#PBF
designator U?
50 mA, Low Dropout Micropower Linear Regulator with PWRGD, 3 to 80 V Vin, Adjustable Vout, 10-pin SON (DD-10), -40 to 125 degC, Pb-Free; Manufacturer: Linear Technology; PartNumber: LT3011EDD#PBF; Discrete Pass Element: no; Dropout Voltage(V): 0.3; Iout(mA): 50; Isupply(mA): 0.046; Noise(uV): 100; Number of Outputs: 1; Output Voltage: Adj; PSRR(dB): 85; Vin Max(V): 80; Vin Min(V): 3; Vout Max(V): 60; Vout Min(V): 1.24; PackageVersion: Rev. C, 06/2010; PackageReference: DD-10; PackageDescription: 10-Pin Plastic DFN, Body 3 x 3 mm, Pitch 0.5 mm; Supplier 1: Digi-Key; Supplier Part Number 1: LT3011EDD#PBF-ND; Supplier 2: Farnell; Supplier Part Number 2: 2295242; Supplier 3: Newark; Supplier Part Number 3: 07P8407; RoHS: TRUE; Shutdown Current(uA): 1; Mounting Technology: Surface Mount; Code_JEDEC: MO-229; ComponentLink1Description: Manufacturer URL; ComponentLink1URL: http://www.linear.com/; ComponentLink2Description: Datasheet; ComponentLink2URL: http://cds.linear.com/docs/en/datasheet/3011f.pdf; ComponentLink3Description: Package Specification; ComponentLink3URL: http://cds.linear.com/docs/en/packaging/DFN_10_05-08-1699.pdf
footprint LT-DD-10_V (SON, 10-Leads, Body 3x3mm, Pitch 0.5mm, Thermal Pad 2.38x1.65mm)
part A pins: 1 OUT (power) "Output. The output supplies power to the load. A minimum output capacitor of 1uF is required to prevent oscillations. Larger capacitors will be required for applications with large transient loads to limit peak voltage (See Datasheet)", 2 ADJ (in) "Adjust. This is the input to the error amplifier. This pin is internally clamped to +/-7V. It has a bias current of 30nA which flows into the pin (see the curve labeled ADJ Pin Bias Current vs Temperature in the Typical (See Datasheet)", 3 GND (power) "Ground. The exposed backside of the package (Pin 11/Pin 13) is an electrical connection for GND. As such, to ensure optimum device operation and thermal performance, the Exposed Pad must be connected directly to Pin 3/Pin 4 (See Datasheet)", 5 PWRGD (hiz) "Power Good. The PWRGD flag is an open-collector flag to indicate that the output voltage has increased above 90% of the nominal output voltage. There is no internal pull-up on this pin; a pull-up resistor must be used. The (See Datasheet)", 6 CT "Timing Capacitor. The CT pin allows the use of a small capacitor to delay the timing between the point where the output crosses the PWRGD threshold and the PWRGD flag changes to a high impedance state. Current out of this (See Datasheet)", 8 ~{SHDN} (in) "Shutdown. The S\H\D\N\ pin is used to put the LT3011 into a low power shutdown state. The output will be off when the S\H\D\N\ pin is pulled low. The S\H\D\N\ pin can be driven either by 5V logic or open-collector logic with (See Datasheet)", 10 IN (power) "Input. Power is supplied to the device through the IN pin. A bypass capacitor is required on this pin if the device is more than six inches away from the main input filter capacitor. In general, the output impedance of a (See Datasheet)", 11 EP (power) "Ground. The Exposed Pad must be soldered to the PCB."
part B pins: 4 NC "No Connection. These pins have no internal connection. Connecting NC pins to a copper area for heat dissipation provides a small improvement in thermal performance.", 7 NC "No Connection. These pins have no internal connection. Connecting NC pins to a copper area for heat dissipation provides a small improvement in thermal performance.", 9 NC "No Connection. These pins have no internal connection. Connecting NC pins to a copper area for heat dissipation provides a small improvement in thermal performance."

## LT3011EDD#TRPBF
designator U?
50 mA, Low Dropout Micropower Linear Regulator with PWRGD, 3 to 80 V Vin, Adjustable Vout, 10-pin SON (DD-10), -40 to 125 degC, Pb-Free, Tape and Reel; Manufacturer: Linear Technology; PartNumber: LT3011EDD#TRPBF; Discrete Pass Element: no; Dropout Voltage(V): 0.3; Iout(mA): 50; Isupply(mA): 0.046; Noise(uV): 100; Number of Outputs: 1; Output Voltage: Adj; PSRR(dB): 85; Vin Max(V): 80; Vin Min(V): 3; Vout Max(V): 60; Vout Min(V): 1.24; PackageVersion: Rev. C, 06/2010; PackageReference: DD-10; PackageDescription: 10-Pin Plastic DFN, Body 3 x 3 mm, Pitch 0.5 mm; Supplier 1: Digi-Key; Supplier Part Number 1: LT3011EDD#TRPBF-ND; Supplier 2: Newark; Supplier Part Number 2: 07P8408; Packing: Tape and Reel; RoHS: TRUE; Shutdown Current(uA): 1; Mounting Technology: Surface Mount; Code_JEDEC: MO-229; ComponentLink1Description: Manufacturer URL; ComponentLink1URL: http://www.linear.com/; ComponentLink2Description: Datasheet; ComponentLink2URL: http://cds.linear.com/docs/en/datasheet/3011f.pdf; ComponentLink3Description: Package Specification; ComponentLink3URL: http://cds.linear.com/docs/en/packaging/DFN_10_05-08-1699.pdf
footprint LT-DD-10_V (SON, 10-Leads, Body 3x3mm, Pitch 0.5mm, Thermal Pad 2.38x1.65mm)
part A pins: 1 OUT (power) "Output. The output supplies power to the load. A minimum output capacitor of 1uF is required to prevent oscillations. Larger capacitors will be required for applications with large transient loads to limit peak voltage (See Datasheet)", 2 ADJ (in) "Adjust. This is the input to the error amplifier. This pin is internally clamped to +/-7V. It has a bias current of 30nA which flows into the pin (see the curve labeled ADJ Pin Bias Current vs Temperature in the Typical (See Datasheet)", 3 GND (power) "Ground. The exposed backside of the package (Pin 11/Pin 13) is an electrical connection for GND. As such, to ensure optimum device operation and thermal performance, the Exposed Pad must be connected directly to Pin 3/Pin 4 (See Datasheet)", 5 PWRGD (hiz) "Power Good. The PWRGD flag is an open-collector flag to indicate that the output voltage has increased above 90% of the nominal output voltage. There is no internal pull-up on this pin; a pull-up resistor must be used. The (See Datasheet)", 6 CT "Timing Capacitor. The CT pin allows the use of a small capacitor to delay the timing between the point where the output crosses the PWRGD threshold and the PWRGD flag changes to a high impedance state. Current out of this (See Datasheet)", 8 ~{SHDN} (in) "Shutdown. The S\H\D\N\ pin is used to put the LT3011 into a low power shutdown state. The output will be off when the S\H\D\N\ pin is pulled low. The S\H\D\N\ pin can be driven either by 5V logic or open-collector logic with (See Datasheet)", 10 IN (power) "Input. Power is supplied to the device through the IN pin. A bypass capacitor is required on this pin if the device is more than six inches away from the main input filter capacitor. In general, the output impedance of a (See Datasheet)", 11 EP (power) "Ground. The Exposed Pad must be soldered to the PCB."
part B pins: 4 NC "No Connection. These pins have no internal connection. Connecting NC pins to a copper area for heat dissipation provides a small improvement in thermal performance.", 7 NC "No Connection. These pins have no internal connection. Connecting NC pins to a copper area for heat dissipation provides a small improvement in thermal performance.", 9 NC "No Connection. These pins have no internal connection. Connecting NC pins to a copper area for heat dissipation provides a small improvement in thermal performance."

## LT3011EMSE#PBF
designator U?
50 mA, Low Dropout Micropower Linear Regulator with PWRGD, 3 to 80 V Vin, Adjustable Vout, 12-pin SOP (MSE-12-EDP), -40 to 125 degC, Pb-Free; Manufacturer: Linear Technology; PartNumber: LT3011EMSE#PBF; Discrete Pass Element: no; Dropout Voltage(V): 0.3; Iout(mA): 50; Isupply(mA): 0.046; Noise(uV): 100; Number of Outputs: 1; Output Voltage: Adj; PSRR(dB): 85; Vin Max(V): 80; Vin Min(V): 3; Vout Max(V): 60; Vout Min(V): 1.24; PackageVersion: Rev. G, 05/2013; PackageReference: MSE-12-EDP; PackageDescription: 12-Pin Plastic MSOP, Exposed Die Pad, Body 4.039 x 3 mm, Pitch 0.65 mm; Supplier 1: Digi-Key; Supplier Part Number 1: LT3011EMSE#PBF-ND; Supplier 2: Farnell; Supplier Part Number 2: 1673556; Supplier 3: Newark; Supplier Part Number 3: 07P8409; RoHS: TRUE; Shutdown Current(uA): 1; Mounting Technology: Surface Mount; ComponentLink1Description: Manufacturer URL; ComponentLink1URL: http://www.linear.com/; ComponentLink2Description: Datasheet; ComponentLink2URL: http://cds.linear.com/docs/en/datasheet/3011f.pdf; ComponentLink3Description: Package Specification; ComponentLink3URL: http://cds.linear.com/docs/en/packaging/05081666_G_MSE12.pdf
footprint LT-MSE-12-EDP_N (SOP, 12-Leads, Body 4.039x3mm, Pitch 0.65mm, Thermal Pad 2.95x1.76mm, IPC Medium Density)
footprint LT-MSE-12-EDP_L (SOP, 12-Leads, Body 4.039x3mm, Pitch 0.65mm, Thermal Pad 2.95x1.76mm, IPC High Density)
footprint LT-MSE-12-EDP_M (SOP, 12-Leads, Body 4.039x3mm, Pitch 0.65mm, Thermal Pad 2.95x1.76mm, IPC Low Density)
part A pins: 2 OUT (power) "Output. The output supplies power to the load. A minimum output capacitor of 1uF is required to prevent oscillations. Larger capacitors will be required for applications with large transient loads to limit peak voltage (See Datasheet)", 3 ADJ (in) "Adjust. This is the input to the error amplifier. This pin is internally clamped to +/-7V. It has a bias current of 30nA which flows into the pin (see the curve labeled ADJ Pin Bias Current vs Temperature in the Typical (See Datasheet)", 4 GND (power) "Ground. The exposed backside of the package (Pin 11/Pin 13) is an electrical connection for GND. As such, to ensure optimum device operation and thermal performance, the Exposed Pad must be connected directly to Pin 3/Pin 4 (See Datasheet)", 6 PWRGD (hiz) "Power Good. The PWRGD flag is an open-collector flag to indicate that the output voltage has increased above 90% of the nominal output voltage. There is no internal pull-up on this pin; a pull-up resistor must be used. The (See Datasheet)", 7 CT "Timing Capacitor. The CT pin allows the use of a small capacitor to delay the timing between the point where the output crosses the PWRGD threshold and the PWRGD flag changes to a high impedance state. Current out of this (See Datasheet)", 9 ~{SHDN} (in) "Shutdown. The S\H\D\N\ pin is used to put the LT3011 into a low power shutdown state. The output will be off when the S\H\D\N\ pin is pulled low. The S\H\D\N\ pin can be driven either by 5V logic or open-collector logic with (See Datasheet)", 11 IN (power) "Input. Power is supplied to the device through the IN pin. A bypass capacitor is required on this pin if the device is more than six inches away from the main input filter capacitor. In general, the output impedance of a (See Datasheet)", 13 EP (power) "Ground. The Exposed Pad must be soldered to the PCB."
part B pins: 1 NC "No Connection. These pins have no internal connection. Connecting NC pins to a copper area for heat dissipation provides a small improvement in thermal performance.", 5 NC "No Connection. These pins have no internal connection. Connecting NC pins to a copper area for heat dissipation provides a small improvement in thermal performance.", 8 NC "No Connection. These pins have no internal connection. Connecting NC pins to a copper area for heat dissipation provides a small improvement in thermal performance.", 10 NC "No Connection. These pins have no internal connection. Connecting NC pins to a copper area for heat dissipation provides a small improvement in thermal performance.", 12 NC "No Connection. These pins have no internal connection. Connecting NC pins to a copper area for heat dissipation provides a small improvement in thermal performance."

## LT3011EMSE#TRPBF
designator U?
50 mA, Low Dropout Micropower Linear Regulator with PWRGD, 3 to 80 V Vin, Adjustable Vout, 12-pin SOP (MSE-12-EDP), -40 to 125 degC, Pb-Free, Tape and Reel; Manufacturer: Linear Technology; PartNumber: LT3011EMSE#TRPBF; Discrete Pass Element: no; Dropout Voltage(V): 0.3; Iout(mA): 50; Isupply(mA): 0.046; Noise(uV): 100; Number of Outputs: 1; Output Voltage: Adj; PSRR(dB): 85; Vin Max(V): 80; Vin Min(V): 3; Vout Max(V): 60; Vout Min(V): 1.24; PackageVersion: Rev. G, 05/2013; PackageReference: MSE-12-EDP; PackageDescription: 12-Pin Plastic MSOP, Exposed Die Pad, Body 4.039 x 3 mm, Pitch 0.65 mm; Supplier 1: Digi-Key; Supplier Part Number 1: LT3011EMSE#TRPBF-ND; Packing: Tape and Reel; RoHS: TRUE; Shutdown Current(uA): 1; Mounting Technology: Surface Mount; ComponentLink1Description: Manufacturer URL; ComponentLink1URL: http://www.linear.com/; ComponentLink2Description: Datasheet; ComponentLink2URL: http://cds.linear.com/docs/en/datasheet/3011f.pdf; ComponentLink3Description: Package Specification; ComponentLink3URL: http://cds.linear.com/docs/en/packaging/05081666_G_MSE12.pdf
footprint LT-MSE-12-EDP_N (SOP, 12-Leads, Body 4.039x3mm, Pitch 0.65mm, Thermal Pad 2.95x1.76mm, IPC Medium Density)
footprint LT-MSE-12-EDP_L (SOP, 12-Leads, Body 4.039x3mm, Pitch 0.65mm, Thermal Pad 2.95x1.76mm, IPC High Density)
footprint LT-MSE-12-EDP_M (SOP, 12-Leads, Body 4.039x3mm, Pitch 0.65mm, Thermal Pad 2.95x1.76mm, IPC Low Density)
part A pins: 2 OUT (power) "Output. The output supplies power to the load. A minimum output capacitor of 1uF is required to prevent oscillations. Larger capacitors will be required for applications with large transient loads to limit peak voltage (See Datasheet)", 3 ADJ (in) "Adjust. This is the input to the error amplifier. This pin is internally clamped to +/-7V. It has a bias current of 30nA which flows into the pin (see the curve labeled ADJ Pin Bias Current vs Temperature in the Typical (See Datasheet)", 4 GND (power) "Ground. The exposed backside of the package (Pin 11/Pin 13) is an electrical connection for GND. As such, to ensure optimum device operation and thermal performance, the Exposed Pad must be connected directly to Pin 3/Pin 4 (See Datasheet)", 6 PWRGD (hiz) "Power Good. The PWRGD flag is an open-collector flag to indicate that the output voltage has increased above 90% of the nominal output voltage. There is no internal pull-up on this pin; a pull-up resistor must be used. The (See Datasheet)", 7 CT "Timing Capacitor. The CT pin allows the use of a small capacitor to delay the timing between the point where the output crosses the PWRGD threshold and the PWRGD flag changes to a high impedance state. Current out of this (See Datasheet)", 9 ~{SHDN} (in) "Shutdown. The S\H\D\N\ pin is used to put the LT3011 into a low power shutdown state. The output will be off when the S\H\D\N\ pin is pulled low. The S\H\D\N\ pin can be driven either by 5V logic or open-collector logic with (See Datasheet)", 11 IN (power) "Input. Power is supplied to the device through the IN pin. A bypass capacitor is required on this pin if the device is more than six inches away from the main input filter capacitor. In general, the output impedance of a (See Datasheet)", 13 EP (power) "Ground. The Exposed Pad must be soldered to the PCB."
part B pins: 1 NC "No Connection. These pins have no internal connection. Connecting NC pins to a copper area for heat dissipation provides a small improvement in thermal performance.", 5 NC "No Connection. These pins have no internal connection. Connecting NC pins to a copper area for heat dissipation provides a small improvement in thermal performance.", 8 NC "No Connection. These pins have no internal connection. Connecting NC pins to a copper area for heat dissipation provides a small improvement in thermal performance.", 10 NC "No Connection. These pins have no internal connection. Connecting NC pins to a copper area for heat dissipation provides a small improvement in thermal performance.", 12 NC "No Connection. These pins have no internal connection. Connecting NC pins to a copper area for heat dissipation provides a small improvement in thermal performance."